# Altium footprint library J 接插件.PcbLib: 458 footprints (part 19 of 29)
Each footprint in its own frame and in the unit in brackets; x right, y up, seen from the top. Pads: shape width x height; smd on the part's side, far side on the other; paste and mask are expansions set on the pad; w line width, h text height; cw(c..) or ccw(c..) is an arc to the next point about the centre after c.
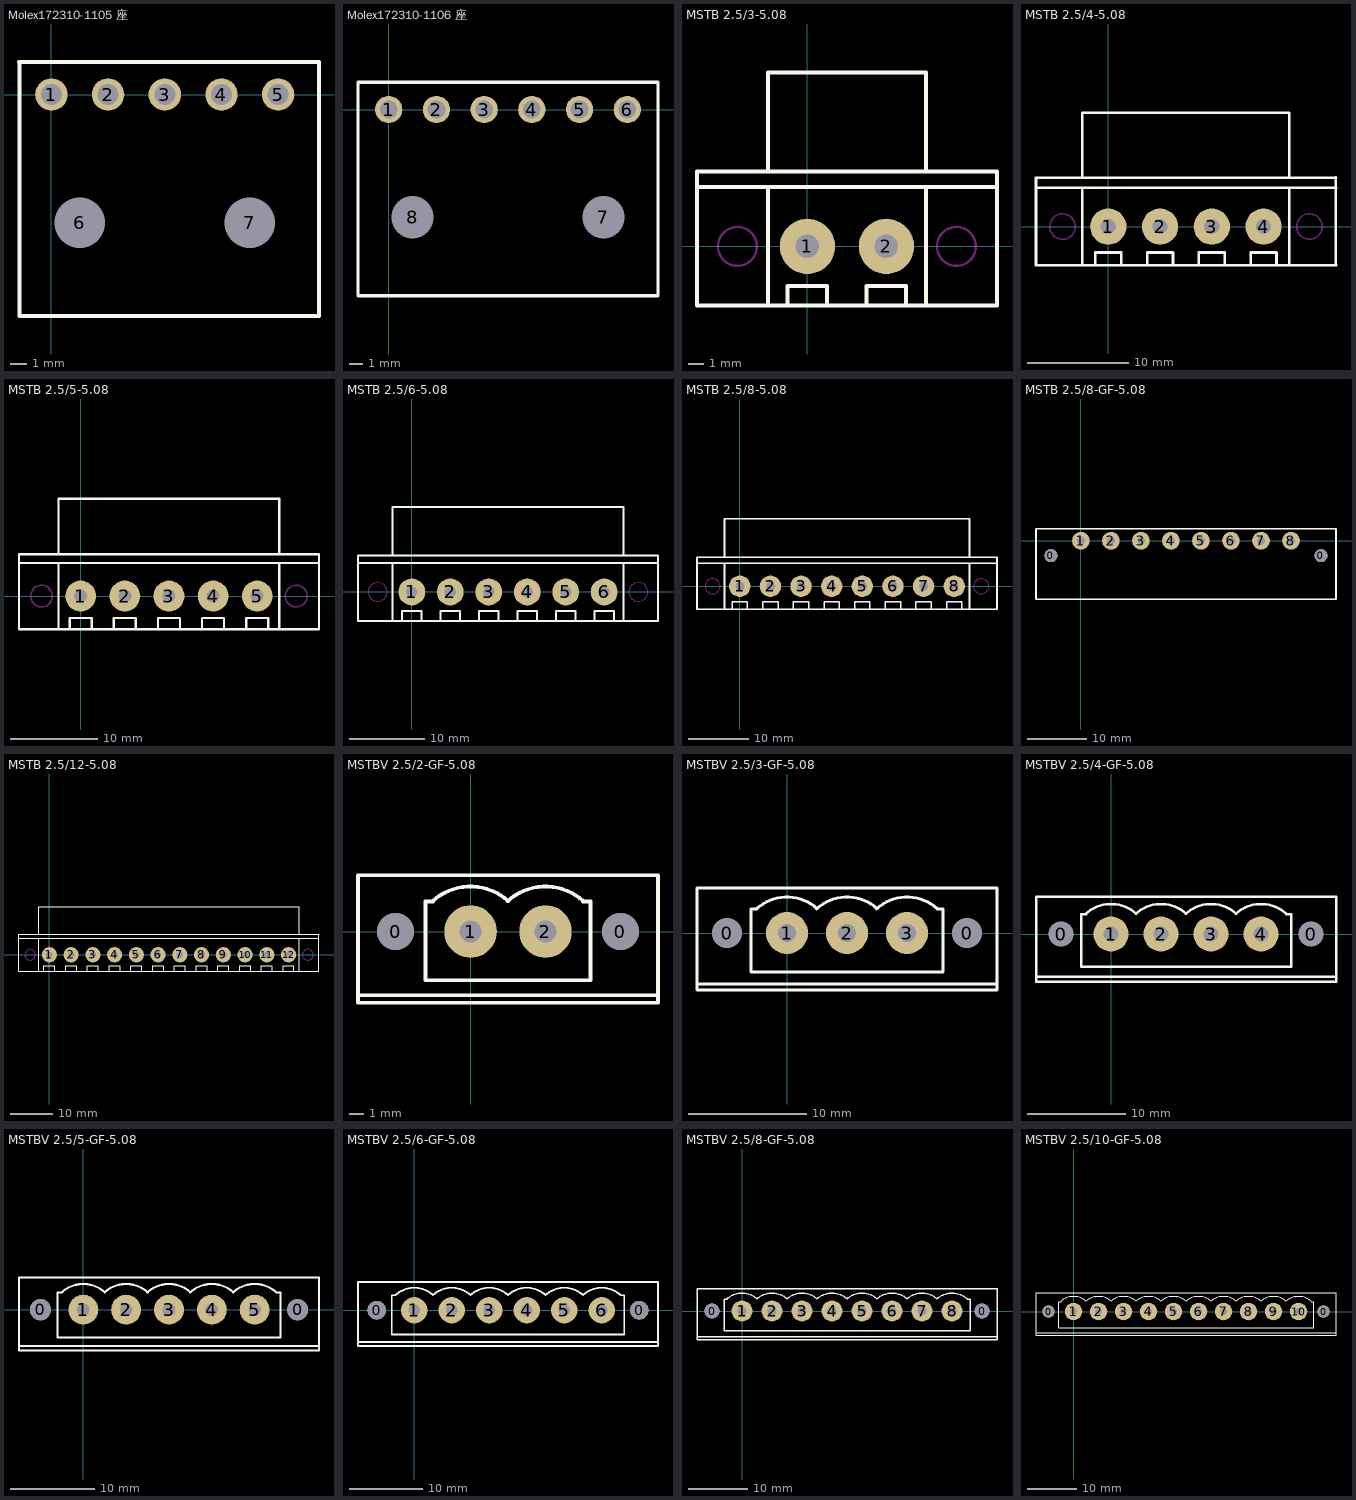
[diagram p18: the footprints below, top view; thin cyan lines are the x and y axes]

## Molex172310-1105 座 [mm] "莫仕连接器 Molex172310-1105 座"
height 10
pads (7):
  round 2 hole 1.3: 1(0,0) 2(3.5,0) 3(7,0) 4(10.5,0) 5(14,0)
  round 2 hole 3.1: 6(1.75,-7.91) 7(12.25,-7.91)
Top Overlay:
  lines w0.254: -2,2 16.52,2 16.52,-13.66 -1.98,-13.66 -1.98,2

## Molex172310-1106 座 [mm] "莫仕连接器 Molex172310-1106 座"
height 10
pads (8):
  round 2 hole 1.3: 1(0,0) 2(3.5,0) 3(7,0) 4(10.5,0) 5(14,0) 6(17.5,0)
  round 2 hole 3.1: 7(15.75,-7.91) 8(1.75,-7.91)
Top Overlay:
  lines w0.254: -2.25,-13.66 -2.25,2 19.75,2 19.75,-13.66 -2.25,-13.66

## MSTB 2.5/3-5.08 [mil]
height 787.4
pads (2):
  round 140 hole 59.06: 1(0,0) 2(200,0)
Top Overlay:
  lines w10: -100,189.45 -100,440.55 300,440.55 300,189.9 ; -50,-150 -50,-100 50,-100 50,-150 ; 150,-150 150,-100 250,-100 250,-150 ; 479.53,189.97 479.53,150 ; 480,-150 -100,-150 ; 480,150 -100,150 ; 480,189.67 -279.53,189.38 -279.53,150 ; -279.53,150 -100,150 ; -279.53,150 -279.53,-150 -100,-150 ; -100,-150 -100,150 ; 479.53,150 300,150 300,-150 479.53,-150 479.53,150
Keep-Out Layer:
  circle w5.98: c-177.17,0 r49.21
  circle w5.98: c377.17,0 r49.21

## MSTB 2.5/4-5.08 [mil]
height 787.4
pads (4):
  round 140 hole 59.06: 1(0,0) 2(200,0) 3(400,0) 4(600,0)
Top Overlay:
  lines w10: -100,189.45 -100,440.55 700,440.55 700,189.9 ; -50,-150 -50,-100 50,-100 50,-150 ; 150,-150 150,-100 250,-100 250,-150 ; 350,-150 350,-100 450,-100 450,-150 ; 550,-150 550,-100 650,-100 ; 879.53,189.97 879.53,150 ; 880,-150 -100,-150 ; 880,150 -100,150 ; 880,189.82 -279.53,189.38 -279.53,150 ; -279.53,150 -279.53,-150 -100,-150 ; -279.53,150 -100,150 ; -100,-150 -100,150 ; 650,-100 650,-150 650,-100 ; 879.53,150 879.53,-150 700,-150 700,150 879.53,150
Keep-Out Layer:
  circle w5.98: c-177.17,0 r49.21
  circle w5.98: c777.17,0 r49.21

## MSTB 2.5/5-5.08 [mil]
height 787.4
pads (5):
  round 140 hole 59.06: 1(0,0) 2(200,0) 3(400,0) 4(600,0) 5(800,0)
Top Overlay:
  lines w10: -100,189.45 -100,440.55 900,440.55 900,189.9 ; -50,-150 -50,-100 50,-100 50,-150 ; 150,-150 150,-100 250,-100 250,-150 ; 350,-150 350,-100 450,-100 450,-150 ; 550,-150 550,-100 650,-100 650,-150 ; 750,-150 750,-100 850,-100 ; 1075,189.89 -279.53,189.38 -279.53,150 ; 1079.53,189.97 1079.53,150 ; 1080,-150 -100,-150 ; 1080,150 -100,150 ; -279.53,150 -279.53,-150 -100,-150 ; -279.53,150 -100,150 ; -100,-150 -100,150 ; 850,-100 850,-150 850,-100 ; 1079.53,150 1079.53,-150 900,-150 900,150 1079.53,150
Keep-Out Layer:
  circle w5.98: c977.17,0 r49.21
  circle w5.98: c-177.17,0 r49.21

## MSTB 2.5/6-5.08 [mil]
height 787.4
pads (6):
  round 140 hole 59.06: 1(0,0) 2(200,0) 3(400,0) 4(600,0) 5(800,0) 6(1000,0)
Top Overlay:
  lines w10: -100,189.45 -100,440.55 1100,440.55 1100,189.9 ; -50,-150 -50,-100 50,-100 50,-150 ; 150,-150 150,-100 250,-100 250,-150 ; 350,-150 350,-100 450,-100 450,-150 ; 550,-150 550,-100 650,-100 650,-150 ; 750,-150 750,-100 850,-100 850,-150 ; 950,-150 950,-100 1050,-100 1050,-150 ; -279.53,150 -279.53,-150 -100,-150 ; -279.53,150 -100,150 ; -279.53,150 -279.53,189.38 1279.53,189.97 1279.53,150 ; -100,-150 -100,150 ; -100,-150 1100,-150 ; -100,150 1100,150 ; 1100,-150 1279.53,-150 1279.53,150 ; 1100,-150 1100,150 ; 1100,150 1279.53,150
Keep-Out Layer:
  circle w5.98: c-177.17,0 r49.21
  circle w5.98: c1177.17,0 r49.21

## MSTB 2.5/8-5.08 [mil]
height 905.51
pads (8):
  round 140 hole 59.06: 1(0,0) 2(200,0) 3(400,0) 4(600,0) 5(800,0) 6(1000,0) 7(1200,0) 8(1400,0)
Top Overlay:
  lines w10: -100,189.45 -100,440.55 1500,440.55 1500,189.9 ; -50,-150 -50,-100 50,-100 50,-150 ; 150,-150 150,-100 250,-100 250,-150 ; 350,-150 350,-100 450,-100 450,-150 ; 550,-150 550,-100 650,-100 650,-150 ; 750,-150 750,-100 850,-100 850,-150 ; 950,-150 950,-100 1050,-100 1050,-150 ; 1150,-150 1150,-100 1250,-100 1250,-150 ; 1350,-150 1350,-100 1450,-100 1450,-150 ; 1510,-150 1100,-150 -100,-150 ; -279.53,150 -279.53,189.38 1679.53,190.12 1679.53,150 ; -279.53,150 -100,150 ; -279.53,150 -279.53,-150 -100,-150 ; -100,-150 -100,150 ; -100,150 1100,150 1500,150 ; 1500,150 1679.53,150 ; 1500,150 1500,-150 1679.53,-150 1679.53,150
Keep-Out Layer:
  circle w5.98: c1577.17,0 r49.21
  circle w5.98: c-177.17,0 r49.21

## MSTB 2.5/8-GF-5.08 [mm]
pads (10):
  round 2.2 hole 2.2: 0(-5.08,-2.54) 0(40.64,-2.54)
  round 3 hole 1.4: 1(0,0) 2(5.08,0) 3(10.16,0) 4(15.24,0) 5(20.32,0) 6(25.4,0) 7(30.48,0) 8(35.56,0)
Top Overlay:
  lines w0.254: -7.6,-9.906 43.18,-9.906 43.18,2.032 -7.6,2.032 -7.6,-9.906

## MSTB 2.5/12-5.08 [mil]
height 905.51
pads (12):
  round 140 hole 59.06: 1(0,0) 2(200,0) 3(400,0) 4(600,0) 5(800,0) 6(1000,0) 7(1200,0) 8(1400,0) 9(1600,0) 10(1800,0) 11(2000,0) 12(2200,0)
Top Overlay:
  lines w10: -100,189.45 -100,440.55 2300,440.55 2300,189.9 ; -50,-150 -50,-100 50,-100 50,-150 ; 150,-150 150,-100 250,-100 250,-150 ; 350,-150 350,-100 450,-100 450,-150 ; 550,-150 550,-100 650,-100 650,-150 ; 750,-150 750,-100 850,-100 850,-150 ; 950,-150 950,-100 1050,-100 1050,-150 ; 1150,-150 1150,-100 1250,-100 1250,-150 ; 1350,-150 1350,-100 1450,-100 1450,-150 ; 1550,-150 1550,-100 1650,-100 1650,-150 ; 1750,-150 1750,-100 1850,-100 1850,-150 ; 1950,-150 1950,-100 2050,-100 2050,-150 ; 2150,-150 2150,-100 2250,-100 2250,-150 ; 2305,-150 1100,-150 -100,-150 ; 2479.53,190.12 2479.53,150 ; 2480,190.42 -279.53,189.38 -279.53,150 ; -279.53,150 -100,150 ; -279.53,150 -279.53,-150 -100,-150 ; -100,-150 -100,150 ; -100,150 1100,150 2300,150 ; 2300,150 2300,-150 2479.53,-150 2479.53,150 ; 2300,150 2479.53,150
Keep-Out Layer:
  circle w5.98: c-177.17,0 r49.21
  circle w5.98: c2377.17,0 r49.21

## MSTBV 2.5/2-GF-5.08 [mm] "菲尼克斯端子-5.08-带螺丝固定"
pads (4):
  round 2.5 hole 2.5: 0(-5.08,0) 0(10.16,0)
  round 3.556 hole 1.5: 1(0,0) 2(5.08,0)
Top Overlay:
  lines w0.254: -7.62,-4.318 12.7,-4.318 ; -2.575,2.047 cw(c0,-0.762) 2.563,2.057 ; -2.54,2.032 -3.048,2.032 -3.048,-3.302 8.128,-3.302 8.128,2.032 7.62,2.032 ; 2.505,2.047 cw(c5.08,-0.762) 7.643,2.057 ; -7.62,-4.826 12.7,-4.826 12.7,3.81 -7.62,3.81 -7.62,-4.826

## MSTBV 2.5/3-GF-5.08 [mm] "菲尼克斯端子-5.08-带螺丝固定"
pads (5):
  round 2.5 hole 2.5: 0(-5.08,0) 0(15.24,0)
  round 3.556 hole 1.5: 1(0,0) 2(5.08,0) 3(10.16,0)
Top Overlay:
  lines w0.254: -7.62,-4.318 17.78,-4.318 ; -2.575,2.047 cw(c0,-0.762) 2.563,2.057 ; -2.54,2.032 -3.048,2.032 -3.048,-3.302 13.208,-3.302 13.208,2.032 12.7,2.032 ; 2.505,2.047 cw(c5.08,-0.762) 7.643,2.057 ; 7.585,2.047 cw(c10.16,-0.762) 12.723,2.057 ; -7.62,-4.826 -7.62,3.81 17.78,3.81 17.78,-4.826 -7.62,-4.826

## MSTBV 2.5/4-GF-5.08 [mm] "菲尼克斯端子-5.08-带螺丝固定"
pads (6):
  round 2.5 hole 2.5: 0(-5.08,0) 0(20.32,0)
  round 3.556 hole 1.5: 1(0,0) 2(5.08,0) 3(10.16,0) 4(15.24,0)
Top Overlay:
  lines w0.254: -7.62,-4.318 22.86,-4.318 ; -2.575,2.047 cw(c0,-0.762) 2.563,2.057 ; -2.54,2.032 -3.048,2.032 -3.048,-3.302 18.288,-3.302 18.288,2.032 17.78,2.032 ; 2.505,2.047 cw(c5.08,-0.762) 7.643,2.057 ; 7.585,2.047 cw(c10.16,-0.762) 12.723,2.057 ; 12.665,2.047 cw(c15.24,-0.762) 17.803,2.057 ; -7.62,-4.826 -7.62,3.81 22.86,3.81 22.86,-4.826 -7.62,-4.826

## MSTBV 2.5/5-GF-5.08 [mm] "菲尼克斯端子-5.08-带螺丝固定"
pads (7):
  round 2.5 hole 2.5: 0(-5.08,0) 0(25.4,0)
  round 3.556 hole 1.5: 1(0,0) 2(5.08,0) 3(10.16,0) 4(15.24,0) 5(20.32,0)
Top Overlay:
  lines w0.254: -7.62,-4.318 27.94,-4.318 ; -2.575,2.047 cw(c0,-0.762) 2.563,2.057 ; -2.54,2.032 -3.048,2.032 -3.048,-3.302 23.368,-3.302 23.368,2.032 22.86,2.032 ; 2.505,2.047 cw(c5.08,-0.762) 7.643,2.057 ; 7.585,2.047 cw(c10.16,-0.762) 12.723,2.057 ; 12.665,2.047 cw(c15.24,-0.762) 17.803,2.057 ; 17.745,2.047 cw(c20.32,-0.762) 22.883,2.057 ; -7.62,-4.826 -7.62,3.81 27.94,3.81 27.94,-4.826 -7.62,-4.826

## MSTBV 2.5/6-GF-5.08 [mil] "菲尼克斯端子-5.08-带螺丝固定"
pads (8):
  round 98.43 hole 98.43: 0(-200,0) 0(1200,0)
  round 140 hole 59.05: 1(0,0) 2(200,0) 3(400,0) 4(600,0) 5(800,0) 6(1000,0)
Top Overlay:
  lines w10: -300,-170 1300,-170 ; -101.36,80.57 cw(c0,-30) 100.9,80.99 ; -100,80 -120,80 -120,-130 1120,-130 1120,80 1100,80 ; 98.64,80.57 cw(c200,-30) 300.9,80.99 ; 298.64,80.57 cw(c400,-30) 500.9,80.99 ; 498.64,80.57 cw(c600,-30) 700.9,80.99 ; 698.64,80.57 cw(c800,-30) 900.9,80.99 ; 899.1,80.99 cw(c1000,-30) 1100.9,80.99 ; -300,-190 -300,150 1300,150 1300,-190 -300,-190

## MSTBV 2.5/8-GF-5.08 [mil] "菲尼克斯端子-5.08-带螺丝固定"
pads (10):
  round 98.43 hole 98.43: 0(-200,0) 0(1600,0)
  round 140 hole 59.05: 1(0,0) 2(200,0) 3(400,0) 4(600,0) 5(800,0) 6(1000,0) 7(1200,0) 8(1400,0)
Top Overlay:
  lines w10: -300,-170 1700,-170 ; -101.36,80.57 cw(c0,-30) 100.9,80.99 ; -100,80 -120,80 -120,-130 1520,-130 1520,80 1500,80 ; 98.64,80.57 cw(c200,-30) 300.9,80.99 ; 298.64,80.57 cw(c400,-30) 500.9,80.99 ; 498.64,80.57 cw(c600,-30) 700.9,80.99 ; 698.64,80.57 cw(c800,-30) 900.9,80.99 ; 899.1,80.99 cw(c1000,-30) 1100.9,80.99 ; 1098.64,80.57 cw(c1200,-30) 1300.9,80.99 ; 1298.64,80.57 cw(c1400,-30) 1500.9,80.99 ; -300,-190 -300,150 1700,150 1700,-190 -300,-190

## MSTBV 2.5/10-GF-5.08 [mil] "菲尼克斯端子-5.08-带螺丝固定"
pads (12):
  round 98.43 hole 98.43: 0(-200,0) 0(2000,0)
  round 140 hole 59.05: 1(0,0) 2(200,0) 3(400,0) 4(600,0) 5(800,0) 6(1000,0) 7(1200,0) 8(1400,0) 9(1600,0) 10(1800,0)
Top Overlay:
  lines w10: -300,-170 2100,-170 ; -101.36,80.57 cw(c0,-30) 100.9,80.99 ; -100,80 -120,80 -120,-130 1920,-130 1920,80 1900,80 ; 98.64,80.57 cw(c200,-30) 300.9,80.99 ; 298.64,80.57 cw(c400,-30) 500.9,80.99 ; 498.64,80.57 cw(c600,-30) 700.9,80.99 ; 698.64,80.57 cw(c800,-30) 900.9,80.99 ; 899.1,80.99 cw(c1000,-30) 1100.9,80.99 ; 1098.64,80.57 cw(c1200,-30) 1300.9,80.99 ; 1298.64,80.57 cw(c1400,-30) 1500.9,80.99 ; 1498.64,80.57 cw(c1600,-30) 1700.9,80.99 ; 1698.64,80.57 cw(c1800,-30) 1900.9,80.99 ; -300,-190 -300,150 2100,150 2100,-190 -300,-190